# Altium footprint library 3D_Components.PcbLib: 1 footprints
Each footprint in its own frame and in the unit in brackets; x right, y up, seen from the top. Pads: shape width x height; smd on the part's side, far side on the other; paste and mask are expansions set on the pad; w line width, h text height; cw(c..) or ccw(c..) is an arc to the next point about the centre after c.

## RFD900X [mm]
3D body: height 12.5, standoff -0.3, extent -30.516,-15.019 30.283,15.781